# Altium footprint library PcbLib1.PcbLib: 35 footprints (part 1 of 3)
Each footprint in its own frame and in the unit in brackets; x right, y up, seen from the top. Pads: shape width x height; smd on the part's side, far side on the other; paste and mask are expansions set on the pad; w line width, h text height; cw(c..) or ccw(c..) is an arc to the next point about the centre after c.
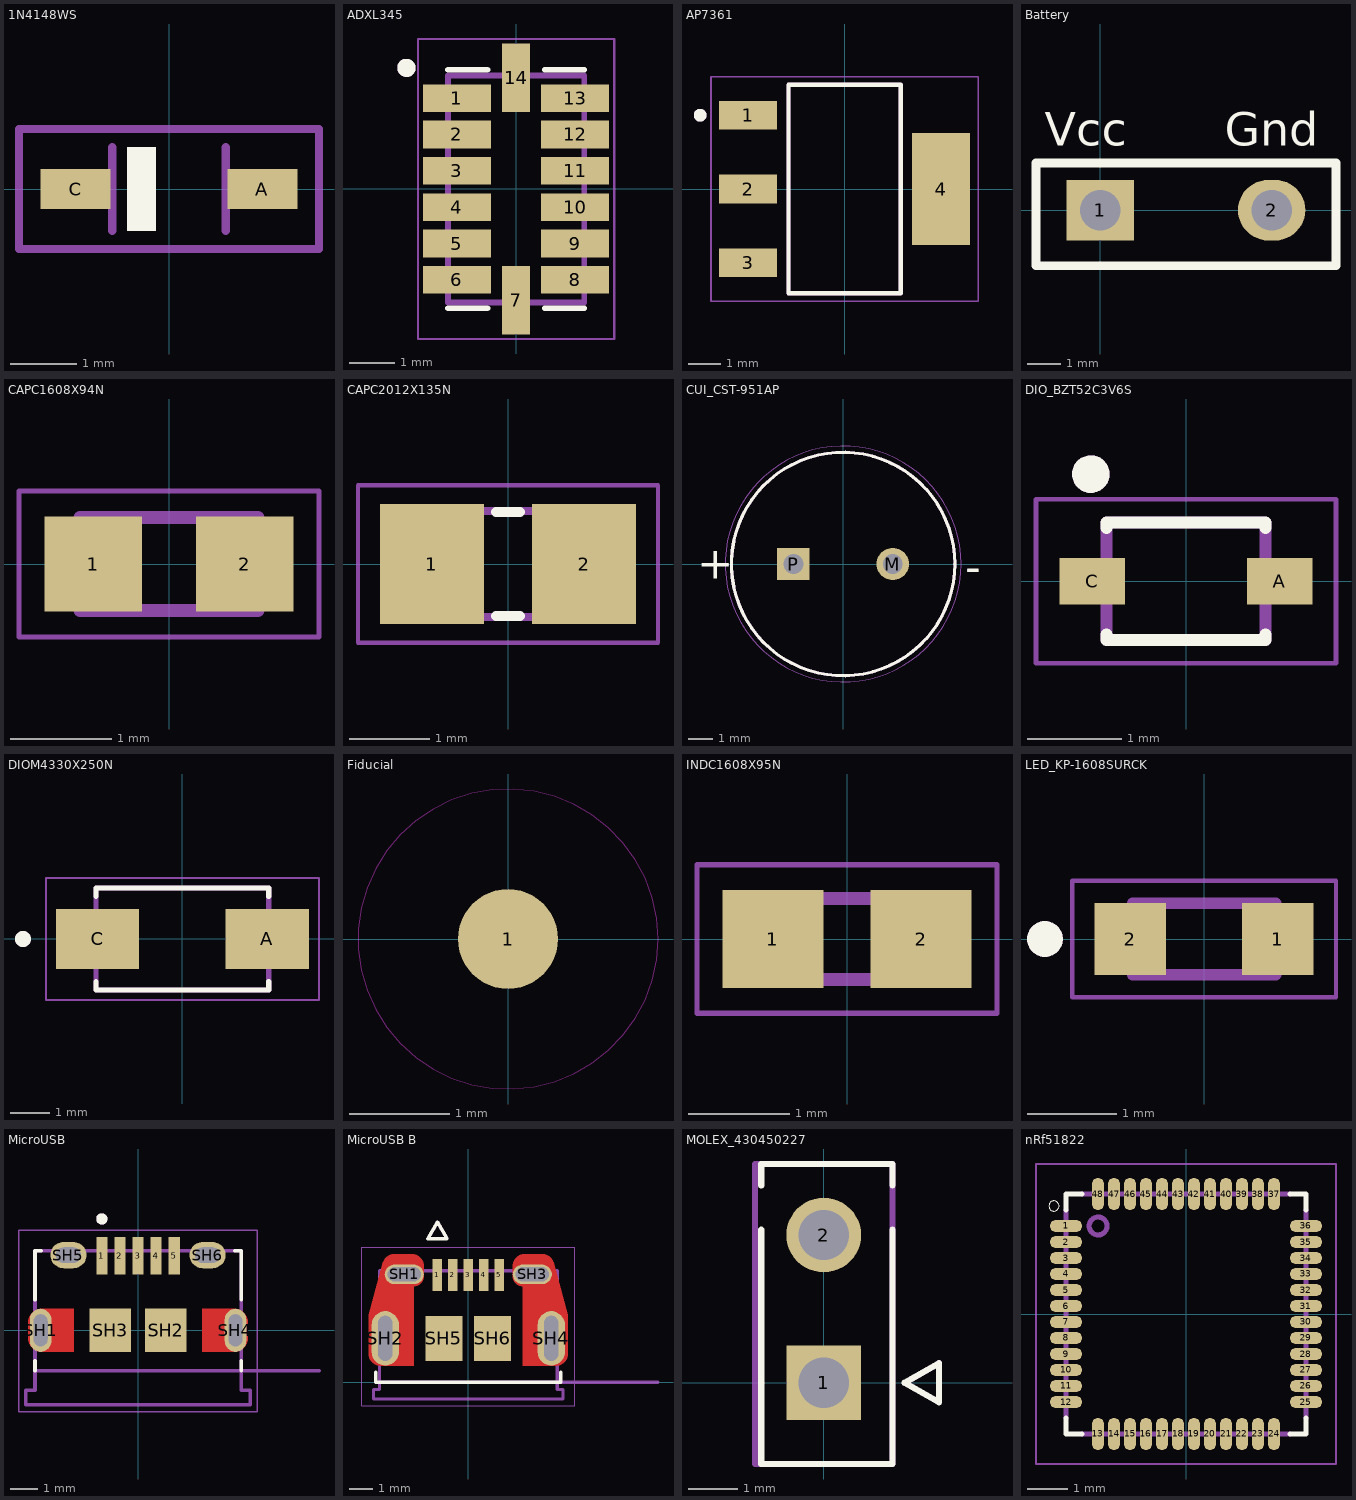
[diagram p0: the footprints below, top view; thin cyan lines are the x and y axes]

## 1N4148WS [mm] "SOD323"
pads (2):
  rect 1.05x0.6 smd: A(1.4,0) C(-1.4,0)
Top Overlay:
  region: -0.2,-0.625 -0.625,-0.625 -0.625,0.625 -0.2,0.625
Mechanical 13:
  lines w0.127: -0.85,-0.625 -0.85,0.625 ; 0.85,-0.625 0.85,0.625
Mechanical 15:
  lines w0.127: -2.25,-0.9 -2.25,0.9 2.25,0.9 2.25,-0.9 -2.25,-0.9
3D body "step_temp.STEP": height 1.1, standoff 0.1, extent -1.25,-0.615 1.25,0.635

## ADXL345 [mm]
height 1
pads (14):
  rect 1.5x0.61 smd mask+0.05: 1(-1.3,2) 2(-1.3,1.2) 3(-1.3,0.4) 4(-1.3,-0.4) 5(-1.3,-1.2) 6(-1.3,-2) 8(1.3,-2) 9(1.3,-1.2) 10(1.3,-0.4) 11(1.3,0.4) 12(1.3,1.2) 13(1.3,2)
  rect 0.61x1.5 smd mask+0.05: 7(0,-2.45) 14(0,2.45)
Top Overlay:
  circle w0.2: c-2.413,2.667 r0.1
  lines w0.127: -1.5,-2.625 -0.63,-2.625 ; -1.5,2.625 -0.63,2.625 ; 0.63,-2.625 1.5,-2.625 ; 0.63,2.625 1.5,2.625
Mechanical 13:
  circle w0.2: c-2.413,2.667 r0.1
  lines w0.127: -1.5,-2.5 -1.5,2.5 1.5,2.5 1.5,-2.5 -1.5,-2.5
Mechanical 15:
  lines w0.05: -2.159,-3.302 2.159,-3.302 2.159,3.302 -2.159,3.302 -2.159,1.784 -2.159,-0.966 -2.159,-3.302
3D body "step_temp.STEP": height 1, standoff 0, extent -1.5,-2.5 1.5,2.5

## AP7361 [mm]
pads (4):
  rect 1.81x0.89 smd: 1(-3.01,2.3) 2(-3.01,0) 3(-3.01,-2.3)
  rect 1.81x3.481 smd: 4(3.01,0)
Top Overlay:
  circle w0.2: c-4.5,2.3 r0.1
  lines w0.127: -1.75,-3.25 -1.75,3.25 1.75,3.25 1.75,-3.25 -1.75,-3.25
Mechanical 4:
  circle w0.2: c-4.5,2.3 r0.1
  circle w0.2: c-4.5,2.3 r0.1
  lines w0.127: -1.75,-3.25 -1.75,3.25 ; -1.75,-3.25 1.75,-3.25 ; -1.75,-3.25 -1.75,3.25 ; -1.75,-3.25 1.75,-3.25 ; -1.75,3.25 1.75,3.25 ; -1.75,3.25 1.75,3.25 ; 1.75,-3.25 1.75,3.25 ; 1.75,-3.25 1.75,3.25
Mechanical 16:
  lines w0.05: -4.165,-3.5 4.165,-3.5 4.165,3.5 -4.165,3.5 -4.165,-3.5
3D body "AP7361-33E-13--3DModel-STEP-56544.STEP": height 1.63, standoff -0.02, extent -3.5,-3.25 3.5,3.25

## Battery [mm]
pads (2):
  rect 2x1.8 hole 1.2: 1(0,0)
  oval 2x1.8 hole 1.2: 2(5.08,0)
Top Overlay:
  lines w0.254: -1.905,-1.651 -1.905,1.397 6.985,1.397 6.985,-1.651 -1.905,-1.651
  text "Vcc" at -1.651,1.905 h1
  text "Gnd" at 3.683,1.905 h1

## CAPC1608X94N [mm]
pads (2):
  rect 0.97x0.94 smd: 1(-0.75,0) 2(0.75,0)
Mechanical 13:
  lines w0.127: -0.88,-0.46 -0.88,0.46 0.88,0.46 0.88,-0.46 -0.88,-0.46
Mechanical 15:
  lines w0.05: -1.485,-0.722 -1.485,0.722 1.485,0.722 1.485,-0.722 -1.485,-0.722
3D body "VJ0603D100MXCAP.STEP": height 0.8, standoff 0, extent -0.8,-0.508 0.8,0.432

## CAPC2012X135N [mm]
pads (2):
  rect 1.3x1.5 smd: 1(-0.95,0) 2(0.95,0)
Top Overlay:
  lines w0.127: -0.15,-0.65 0.15,-0.65 ; -0.15,0.65 0.15,0.65
Mechanical 13:
  region: -0.342,-0.724 -1.092,-0.724 -1.092,0.726 -0.342,0.726
  region: 1.106,-0.724 0.356,-0.724 0.356,0.726 1.106,0.726
  lines w0.102: -0.381,0.66 0.381,0.66 ; -0.356,-0.66 0.381,-0.66
Mechanical 15:
  lines w0.051: -1.873,-0.983 1.873,-0.983 1.873,0.983 -1.873,0.983 -1.873,-0.983
3D body "GRT21BR61C106KE01L.STEP": height 1.22, standoff -0.03, extent -1,-0.725 1,0.725

## CUI_CST-951AP [mm]
pads (2):
  round 1.308 hole 0.8: M(2,0)
  rect 1.308x1.308 / inner round 1.308 / far side rect 1.308x1.308 hole 0.8: P(-2,0)
Top Overlay:
  circle w0.127: c0,0 r4.5
  text "-" at 4.925,-0.729 h1.27
  text "+" at -5.885,-0.602 h1.27
Mechanical 13:
  circle w0.127: c0,0 r4.5
Mechanical 15:
  circle w0.05: c0,0 r4.75
3D body "CUI_DEVICES_CST-951AP.step": height 4.5, standoff -4.5, extent -4.5,-4.5 4.5,4.5

## DIO_BZT52C3V6S [mm]
height 1.1
pads (2):
  rect 0.7x0.5 smd: A(1,0) C(-1,0)
Top Overlay:
  circle w0.2: c-1.016,1.143 r0.1
  lines w0.127: -0.85,-0.57 -0.85,-0.625 0.85,-0.625 0.85,-0.57 ; -0.85,0.57 -0.85,0.625 0.85,0.625 0.85,0.57
Mechanical 13:
  circle w0.2: c-1.016,1.143 r0.1
  lines w0.127: -0.85,-0.625 -0.85,0.625 0.85,0.625 0.85,-0.625 -0.85,-0.625
Mechanical 15:
  lines w0.05: -1.6,-0.875 -1.6,0.875 1.6,0.875 1.6,-0.875 -1.6,-0.875
3D body "step_temp.STEP": height 1.1, standoff 0, extent -1.25,-0.625 1.25,0.625

## DIOM4330X250N [mm]
height 2.5
pads (2):
  rect 2.09x1.5 smd: A(2.13,0) C(-2.13,0)
Top Overlay:
  circle w0.2: c-4,0 r0.1
  lines w0.127: -2.165,-1.07 -2.165,-1.28 2.165,-1.28 2.165,-1.07 ; -2.165,1.07 -2.165,1.28 2.165,1.28 2.165,1.07
Mechanical 13:
  circle w0.2: c-4,0 r0.1
  lines w0.127: -2.165,-1.28 -2.165,1.28 2.165,1.28 2.165,-1.28 -2.165,-1.28
Mechanical 15:
  lines w0.05: -3.425,-1.53 -3.425,1.53 3.425,1.53 3.425,-1.53 -3.425,-1.53
3D body "step_temp.STEP": height 2.5, standoff 0, extent -2.57,-1.28 2.57,1.28

## Fiducial [mm]
pads (1):
  round 1 smd paste-1 mask+1: 1(0,0)
Top Layer keep-out:
  circle w0.01: c0,0 r1.5
3D body: height -0.1, standoff -0.2, extent -0.5,-0.5 0.5,0.5

## INDC1608X95N [mm]
pads (2):
  rect 1x0.97 smd: 1(-0.735,0) 2(0.735,0)
Mechanical 13:
  lines w0.127: -0.8,-0.4 -0.8,0.4 0.8,0.4 0.8,-0.4 -0.8,-0.4
Mechanical 15:
  lines w0.05: -1.485,-0.735 1.485,-0.735 1.485,0.735 -1.485,0.735 -1.485,-0.735
3D body "step_temp.STEP": height 0.95, standoff 0, extent -0.8,-0.4 0.8,0.4

## LED_KP-1608SURCK [mm]
height 1.1
pads (2):
  rect 0.8x0.8 smd: 1(0.825,0) 2(-0.825,0)
Top Overlay:
  circle w0.2: c-1.778,0 r0.1
Mechanical 13:
  circle w0.2: c-1.778,0 r0.1
  lines w0.127: -0.8,-0.4 0.8,-0.4 0.8,0.4 -0.8,0.4 -0.8,-0.4
Mechanical 15:
  lines w0.05: -1.475,-0.65 -1.475,0.65 1.475,0.65 1.475,-0.65 -1.475,-0.65
3D body "step_temp.STEP": height 1.1, standoff 0, extent -0.8,-0.4 0.8,0.4
3D body "4-2176243-5.stp": height 0.38, standoff -0.42, extent -0.8,-0.225 0.8,0.225

## MicroUSB [mm]
height 2.66
pads (11):
  rect 0.4x1.35 smd: 1(-1.3,2.675) 2(-0.65,2.675) 3(0,2.675) 4(0.65,2.675) 5(1.3,2.675)
  oval 0.775x1.55 hole 0.5 slot 1.15 at 90 deg mask+0: SH1(-3.5,0) SH4(3.5,0)
  rect 1.5x1.55 smd: SH2(1,0) SH3(-1,0)
  oval 1.3x0.95 hole 0.55 slot 0.9 at 0 deg: SH5(-2.5,2.7) SH6(2.5,2.7)
Top Layer:
  region: -2.3,-0.775 -3.445,-0.775 -3.471,-0.774 -3.497,-0.772 -3.523,-0.769 -3.549,-0.764 -3.574,-0.758 -3.6,-0.751 -3.624,-0.742 -3.648,-0.732 -3.672,-0.721 -3.695,-0.708 -3.717,-0.694 -3.739,-0.68 -3.76,-0.664 -3.78,-0.647 -3.799,-0.629 -3.817,-0.61 -3.834,-0.59 -3.85,-0.569 -3.864,-0.547 -3.878,-0.525 -3.891,-0.502 -3.902,-0.478 -3.912,-0.454 -3.921,-0.43 -3.928,-0.404 -3.934,-0.379 -3.939,-0.353 -3.942,-0.327 -3.944,-0.301 -3.945,-0.275 -3.945,0.275 -3.944,0.301 -3.942,0.327 -3.939,0.353 -3.934,0.379 -3.928,0.404 -3.921,0.43 -3.912,0.454 -3.902,0.478 -3.891,0.502 -3.878,0.525 -3.864,0.547 -3.85,0.569 -3.834,0.59 -3.817,0.61 -3.799,0.629 -3.78,0.647 -3.76,0.664 -3.739,0.68 -3.717,0.694 -3.695,0.708 -3.672,0.721 -3.648,0.732 -3.624,0.742 -3.6,0.751 -3.574,0.758 -3.549,0.764 -3.523,0.769 -3.497,0.772 -3.471,0.774 -3.445,0.775 -2.3,0.775
  region: 3.471,0.774 3.497,0.772 3.523,0.769 3.549,0.764 3.574,0.758 3.6,0.751 3.624,0.742 3.648,0.732 3.672,0.721 3.695,0.708 3.717,0.694 3.739,0.68 3.76,0.664 3.78,0.647 3.799,0.629 3.817,0.61 3.834,0.59 3.85,0.569 3.864,0.547 3.878,0.525 3.891,0.502 3.902,0.478 3.912,0.454 3.921,0.43 3.928,0.404 3.934,0.379 3.939,0.353 3.942,0.327 3.944,0.301 3.945,0.275 3.945,-0.275 3.944,-0.301 3.942,-0.327 3.939,-0.353 3.934,-0.379 3.928,-0.404 3.921,-0.43 3.912,-0.454 3.902,-0.478 3.891,-0.502 3.878,-0.525 3.864,-0.547 3.85,-0.569 3.834,-0.59 3.817,-0.61 3.799,-0.629 3.78,-0.647 3.76,-0.664 3.739,-0.68 3.717,-0.694 3.695,-0.708 3.672,-0.721 3.648,-0.732 3.624,-0.742 3.6,-0.751 3.574,-0.758 3.549,-0.764 3.523,-0.769 3.497,-0.772 3.471,-0.774 3.445,-0.775 2.3,-0.775 2.3,0.775 3.445,0.775
Top Overlay:
  circle w0.2: c-1.3,4 r0.1
  lines w0.127: -3.7,-1.45 -3.7,-1.1 ; -3.7,1.1 -3.7,2.85 -3.47,2.85 ; 3.47,2.85 3.7,2.85 3.7,1.1 ; 3.7,-1.45 3.7,-1.1
Top Paste:
  region: -2.3,-0.775 -3.445,-0.775 -3.471,-0.774 -3.497,-0.772 -3.523,-0.769 -3.549,-0.764 -3.574,-0.758 -3.6,-0.751 -3.624,-0.742 -3.648,-0.732 -3.672,-0.721 -3.695,-0.708 -3.717,-0.694 -3.739,-0.68 -3.76,-0.664 -3.78,-0.647 -3.799,-0.629 -3.817,-0.61 -3.834,-0.59 -3.85,-0.569 -3.864,-0.547 -3.878,-0.525 -3.891,-0.502 -3.902,-0.478 -3.912,-0.454 -3.921,-0.43 -3.928,-0.404 -3.934,-0.379 -3.939,-0.353 -3.942,-0.327 -3.944,-0.301 -3.945,-0.275 -3.945,0.275 -3.944,0.301 -3.942,0.327 -3.939,0.353 -3.934,0.379 -3.928,0.404 -3.921,0.43 -3.912,0.454 -3.902,0.478 -3.891,0.502 -3.878,0.525 -3.864,0.547 -3.85,0.569 -3.834,0.59 -3.817,0.61 -3.799,0.629 -3.78,0.647 -3.76,0.664 -3.739,0.68 -3.717,0.694 -3.695,0.708 -3.672,0.721 -3.648,0.732 -3.624,0.742 -3.6,0.751 -3.574,0.758 -3.549,0.764 -3.523,0.769 -3.497,0.772 -3.471,0.774 -3.445,0.775 -2.3,0.775
  region: 3.471,0.774 3.497,0.772 3.523,0.769 3.549,0.764 3.574,0.758 3.6,0.751 3.624,0.742 3.648,0.732 3.672,0.721 3.695,0.708 3.717,0.694 3.739,0.68 3.76,0.664 3.78,0.647 3.799,0.629 3.817,0.61 3.834,0.59 3.85,0.569 3.864,0.547 3.878,0.525 3.891,0.502 3.902,0.478 3.912,0.454 3.921,0.43 3.928,0.404 3.934,0.379 3.939,0.353 3.942,0.327 3.944,0.301 3.945,0.275 3.945,-0.275 3.944,-0.301 3.942,-0.327 3.939,-0.353 3.934,-0.379 3.928,-0.404 3.921,-0.43 3.912,-0.454 3.902,-0.478 3.891,-0.502 3.878,-0.525 3.864,-0.547 3.85,-0.569 3.834,-0.59 3.817,-0.61 3.799,-0.629 3.78,-0.647 3.76,-0.664 3.739,-0.68 3.717,-0.694 3.695,-0.708 3.672,-0.721 3.648,-0.732 3.624,-0.742 3.6,-0.751 3.574,-0.758 3.549,-0.764 3.523,-0.769 3.497,-0.772 3.471,-0.774 3.445,-0.775 2.3,-0.775 2.3,0.775 3.445,0.775
Top Solder:
  region: -2.2,-0.875 -3.445,-0.875 -3.476,-0.874 -3.508,-0.872 -3.539,-0.868 -3.57,-0.862 -3.6,-0.855 -3.63,-0.846 -3.66,-0.835 -3.689,-0.823 -3.717,-0.81 -3.745,-0.795 -3.772,-0.778 -3.798,-0.76 -3.823,-0.741 -3.846,-0.721 -3.869,-0.699 -3.891,-0.676 -3.911,-0.653 -3.93,-0.628 -3.948,-0.602 -3.965,-0.575 -3.98,-0.547 -3.993,-0.519 -4.005,-0.49 -4.016,-0.46 -4.025,-0.43 -4.032,-0.4 -4.038,-0.369 -4.042,-0.338 -4.044,-0.306 -4.045,-0.275 -4.045,0.275 -4.044,0.306 -4.042,0.338 -4.038,0.369 -4.032,0.4 -4.025,0.43 -4.016,0.46 -4.005,0.49 -3.993,0.519 -3.98,0.547 -3.965,0.575 -3.948,0.602 -3.93,0.628 -3.911,0.653 -3.891,0.676 -3.869,0.699 -3.846,0.721 -3.823,0.741 -3.798,0.76 -3.772,0.778 -3.745,0.795 -3.717,0.81 -3.689,0.823 -3.66,0.835 -3.63,0.846 -3.6,0.855 -3.57,0.862 -3.539,0.868 -3.508,0.872 -3.476,0.874 -3.445,0.875 -2.2,0.875
  region: 3.476,0.874 3.508,0.872 3.539,0.868 3.57,0.862 3.6,0.855 3.63,0.846 3.66,0.835 3.689,0.823 3.717,0.81 3.745,0.795 3.772,0.778 3.798,0.76 3.823,0.741 3.846,0.721 3.869,0.699 3.891,0.676 3.911,0.653 3.93,0.628 3.948,0.602 3.965,0.575 3.98,0.547 3.993,0.519 4.005,0.49 4.016,0.46 4.025,0.43 4.032,0.4 4.038,0.369 4.042,0.338 4.044,0.306 4.045,0.275 4.045,-0.275 4.044,-0.306 4.042,-0.338 4.038,-0.369 4.032,-0.4 4.025,-0.43 4.016,-0.46 4.005,-0.49 3.993,-0.519 3.98,-0.547 3.965,-0.575 3.948,-0.602 3.93,-0.628 3.911,-0.653 3.891,-0.676 3.869,-0.699 3.846,-0.721 3.823,-0.741 3.798,-0.76 3.772,-0.778 3.745,-0.795 3.717,-0.81 3.689,-0.823 3.66,-0.835 3.63,-0.846 3.6,-0.855 3.57,-0.862 3.539,-0.868 3.508,-0.872 3.476,-0.874 3.445,-0.875 2.2,-0.875 2.2,0.875 3.445,0.875
Bottom Solder:
  drawing of 2 lines, arcs and shapes, not listed
Mechanical 13:
  circle w0.2: c-1.3,4 r0.1
  lines w0.127: 6.5,-1.45 -3.7,-1.45 ; -3.7,-1.45 -3.7,-2.15 -4.025,-2.15 -4.025,-2.68 4.025,-2.68 4.025,-2.15 3.7,-2.15 3.7,2.85 -3.7,2.85 -3.7,-1.45
  text "PCB EDGE" at 4.25,-1.25 h0.81
Mechanical 15:
  lines w0.05: -4.275,-2.93 -4.275,3.6 4.275,3.6 4.275,-2.93 -4.275,-2.93
3D body "step_temp.STEP": height 2.67, standoff -0.6, extent -4.025,-2.68 4.025,2.85

## MicroUSB B [mm]
height 2.85
pads (11):
  rect 0.4x1.35 smd mask+0.064: 1(-1.3,4.525) 2(-0.65,4.525) 3(0,4.525) 4(0.65,4.525) 5(1.3,4.525)
  oval 1.65x0.825 hole 0.6 slot 1.4 at 0 deg mask+0: SH1(-2.7,4.55) SH3(2.7,4.55)
  oval 1.15x2.3 hole 0.6 slot 1.9 at 90 deg mask+0: SH2(-3.5,1.85) SH4(3.5,1.85)
  rect 1.55x1.9 smd mask+0.064: SH5(-1.025,1.85) SH6(1.025,1.85)
Top Layer:
  region: 3.162,5.398 3.184,5.396 3.206,5.392 3.227,5.388 3.248,5.383 3.269,5.377 3.29,5.37 3.31,5.362 3.33,5.353 3.35,5.344 3.369,5.333 3.387,5.322 3.406,5.31 3.423,5.297 3.44,5.283 3.457,5.269 3.472,5.254 3.487,5.238 3.502,5.221 3.515,5.204 3.528,5.187 3.54,5.169 3.552,5.15 3.562,5.131 3.572,5.111 3.581,5.091 3.589,5.071 3.596,5.05 3.601,5.032 4.2,2.85 4.2,1.2 4.199,1.174 4.197,1.148 4.194,1.122 4.189,1.096 4.183,1.071 4.176,1.045 4.167,1.021 4.157,0.997 4.146,0.973 4.133,0.95 4.119,0.928 4.105,0.906 4.089,0.885 4.072,0.865 4.054,0.846 4.035,0.828 4.015,0.811 3.994,0.795 3.972,0.781 3.95,0.767 3.927,0.754 3.903,0.743 3.879,0.733 3.855,0.724 3.829,0.717 3.804,0.711 3.778,0.706 3.752,0.703 3.726,0.701 3.7,0.7 2.3,0.7 2.3,4.05 2.278,4.051 2.256,4.052 2.234,4.055 2.212,4.059 2.19,4.064 2.169,4.071 2.148,4.078 2.127,4.087 2.107,4.096 2.087,4.107 2.069,4.119 2.05,4.131 2.033,4.145 2.016,4.159 1.999,4.174 1.984,4.191 1.97,4.208 1.956,4.225 1.944,4.244 1.932,4.262 1.921,4.282 1.912,4.302 1.903,4.323 1.896,4.344 1.889,4.365 1.884,4.387 1.88,4.409 1.877,4.431 1.876,4.453 1.875,4.475 1.875,4.9 1.876,4.926 1.878,4.952 1.881,4.978 1.886,5.004 1.892,5.029 1.899,5.055 1.908,5.079 1.918,5.103 1.929,5.127 1.942,5.15 1.956,5.172 1.97,5.194 1.986,5.215 2.003,5.235 2.021,5.254 2.04,5.272 2.06,5.289 2.081,5.305 2.103,5.319 2.125,5.333 2.148,5.346 2.172,5.357 2.196,5.367 2.22,5.376 2.246,5.383 2.271,5.389 2.297,5.394 2.323,5.397 2.349,5.399 2.375,5.4 3.141,5.4
  region: -2.349,5.399 -2.323,5.397 -2.297,5.394 -2.271,5.389 -2.246,5.383 -2.22,5.376 -2.196,5.367 -2.172,5.357 -2.148,5.346 -2.125,5.333 -2.103,5.319 -2.081,5.305 -2.06,5.289 -2.04,5.272 -2.021,5.254 -2.003,5.235 -1.986,5.215 -1.97,5.194 -1.956,5.172 -1.942,5.15 -1.929,5.127 -1.918,5.103 -1.908,5.079 -1.899,5.055 -1.892,5.029 -1.886,5.004 -1.881,4.978 -1.878,4.952 -1.876,4.926 -1.875,4.9 -1.875,4.475 -1.876,4.453 -1.877,4.431 -1.88,4.409 -1.884,4.387 -1.889,4.365 -1.896,4.344 -1.903,4.323 -1.912,4.302 -1.921,4.282 -1.932,4.263 -1.944,4.244 -1.956,4.225 -1.97,4.208 -1.984,4.191 -1.999,4.174 -2.016,4.159 -2.033,4.145 -2.05,4.131 -2.069,4.119 -2.087,4.107 -2.107,4.096 -2.127,4.087 -2.148,4.078 -2.169,4.071 -2.19,4.064 -2.212,4.059 -2.234,4.055 -2.256,4.052 -2.278,4.051 -2.3,4.05 -2.3,0.7 -3.7,0.7 -3.726,0.701 -3.752,0.703 -3.778,0.706 -3.804,0.711 -3.829,0.717 -3.855,0.724 -3.879,0.733 -3.903,0.743 -3.927,0.754 -3.95,0.767 -3.972,0.781 -3.994,0.795 -4.015,0.811 -4.035,0.828 -4.054,0.846 -4.072,0.865 -4.089,0.885 -4.105,0.906 -4.119,0.928 -4.133,0.95 -4.146,0.973 -4.157,0.997 -4.167,1.021 -4.176,1.045 -4.183,1.071 -4.189,1.096 -4.194,1.122 -4.197,1.148 -4.199,1.174 -4.2,1.2 -4.2,2.85 -3.601,5.032 -3.596,5.05 -3.589,5.071 -3.581,5.091 -3.572,5.111 -3.562,5.131 -3.552,5.15 -3.54,5.169 -3.528,5.187 -3.515,5.204 -3.502,5.221 -3.487,5.238 -3.472,5.254 -3.457,5.269 -3.44,5.283 -3.423,5.297 -3.406,5.31 -3.387,5.322 -3.369,5.333 -3.35,5.344 -3.33,5.353 -3.31,5.362 -3.29,5.37 -3.269,5.377 -3.248,5.383 -3.227,5.388 -3.206,5.392 -3.184,5.396 -3.162,5.398 -3.141,5.4 -2.375,5.4
Top Overlay:
  lines w0.15: -3.9,0.423 -3.9,0 3.9,0 3.9,0.423 ; -1.7,6.055 -1.3,6.755 -0.9,6.055 -1.7,6.055
Top Solder:
  drawing of 2 lines, arcs and shapes, not listed
Bottom Solder:
  drawing of 4 lines, arcs and shapes, not listed
Mechanical 2:
  text "'.Designator'" at 0,2.877 h0.7
Mechanical 12:
  text "PTH Slot 1.4 +/-0.05 X 0.6 +/-0.05" at -4.5,9.5 h0.5
  text "PTH Slot 0.6 +/-0.05 X 1.9 +/-0.05" at -4.5,10.5 h0.5
Mechanical 13:
  lines w0.13: 8,0 3.75,0 ; -3.75,0 -3.75,-0.3 -4,-0.3 -4,-0.7 4,-0.7 4,-0.3 3.75,-0.3 3.75,0 ; -3.75,0 3.75,0 ; -3.75,0 -3.75,4.7 3.75,4.7 3.75,0 ; -1.7,6.055 -1.3,6.755 -0.9,6.055 -1.7,6.055
  text "PCB EDGE" at 4.75,0.25 h0.5
Mechanical 15:
  lines w0.01: -4.5,-1 -4.5,5.7 4.5,5.7 4.5,-1 -4.5,-1
3D body "1050170002.stp": height 2.67, standoff -0.73, extent -4,-0.718 4,4.992

## MOLEX_430450227 [mm]
height 9.91
pads (2):
  rect 1.52x1.52 / inner round 1.52 / far side rect 1.52x1.52 hole 1.02 mask+0.076: 1(0,0)
  round 1.52 hole 1.02 mask+0.076: 2(0,3)
Top Overlay:
  lines w0.127: -1.27,3.11 -1.27,-1.651 1.397,-1.651 1.397,3.11 ; -1.27,4.008 -1.27,4.445 1.397,4.445 1.397,4.008 ; 1.644,0 2.344,0.4 2.344,-0.4 1.644,0
Mechanical 13:
  lines w0.127: 1.774,0.075 2.344,0.4 2.344,-0.251 ; -1.397,-1.651 1.397,-1.651 1.397,4.445 -1.397,4.445 -1.397,-1.651

## nRf51822 [mm]
pads (48):
  oval 0.8x0.3 smd mask+0: 1(-3,2.2) 2(-3,1.8) 3(-3,1.4) 4(-3,1) 5(-3,0.6) 6(-3,0.2) 7(-3,-0.2) 8(-3,-0.6) 9(-3,-1) 10(-3,-1.4) 11(-3,-1.8) 12(-3,-2.2) 25(3,-2.2) 26(3,-1.8) 27(3,-1.4) 28(3,-1) 29(3,-0.6) 30(3,-0.2) 31(3,0.2) 32(3,0.6) 33(3,1) 34(3,1.4) 35(3,1.8) 36(3,2.2)
  oval 0.3x0.8 smd mask+0: 13(-2.2,-3) 14(-1.8,-3) 15(-1.4,-3) 16(-1,-3) 17(-0.6,-3) 18(-0.2,-3) 19(0.2,-3) 20(0.6,-3) 21(1,-3) 22(1.4,-3) 23(1.8,-3) 24(2.2,-3) 37(2.2,3) 38(1.8,3) 39(1.4,3) 40(1,3) 41(0.6,3) 42(0.2,3) 43(-0.2,3) 44(-0.6,3) 45(-1,3) 46(-1.4,3) 47(-1.8,3) 48(-2.2,3)
Top Overlay:
  circle w0: c-3.3,2.7 r0.127
  lines w0.127: -3,-2.6 -3,-3 -2.6,-3 ; -3,2.6 -3,3 -2.6,3 ; 2.6,-3 3,-3 3,-2.6 ; 2.6,3 3,3 3,2.6
Top Paste:
  region: 1.45,-1.452 -1.452,-1.452 -1.452,1.45 1.45,1.45
Top Solder:
  drawing of 48 lines, arcs and shapes, not listed
Mechanical 13:
  drawing of 53 lines, arcs and shapes, not listed
Mechanical 15:
  lines w0.05: -3.75,-3.75 -3.75,3.75 3.75,3.75 3.75,-3.75 -3.75,-3.75
3D body "NRF51822-QFAA-R7.STEP": height 0.93, standoff -0.02, extent -3,-3 3,3